# EAGLE library part X__DEBUG_SIM3C1XX (library ++Bedrahtet)
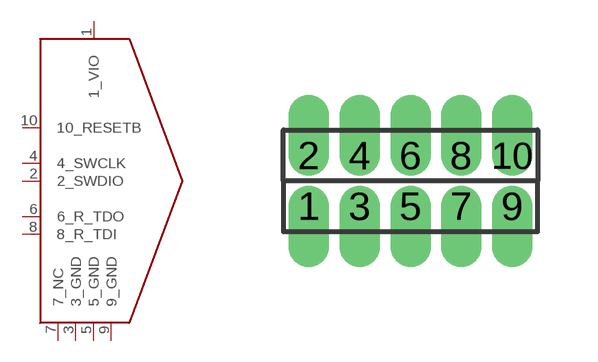
[diagram p25: symbol with the pads of SIM3C1XX_DEBUG_STIFTLEISTE_FEIN; footprint SIM3C1XX_DEBUG_STIFTLEISTE_FEIN]

Designator prefix X

## X__DEBUG_SIM3C1XX  [SIM3C1XX_DEBUG_STIFTLEISTE_FEIN]
1  1_VIO
2  2_SWDIO
3  3_GND
4  4_SWCLK
5  5_GND
6  6_R_TDO
7  7_NC
8  8_R_TDI
9  9_GND
10  10_RESETB

## Footprint SIM3C1XX_DEBUG_STIFTLEISTE_FEIN (pad centres in mm)
drill 0.508 pad 1.016 offset: 1 0,0; 2 0,1.27; 3 1.27,0; 4 1.27,1.27; 5 2.54,0; 6 2.54,1.27; 7 3.81,0; 8 3.81,1.27; 9 5.08,0; 10 5.08,1.27